# Altium schematic symbol library CRMA1206AF6M00DKEF.SchLib: 1 symbol
Pins are listed as number, name and electrical type; pins without a type are passive.

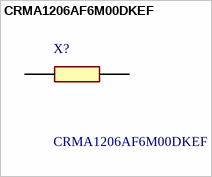
[diagram p0: symbol CRMA1206AF6M00DKEF]

## CRMA1206AF6M00DKEF
designator X?
Thick Film Resistors - SMD 0.30W 6Mohm .5% AEC-Q200; Manufacturer_Name: Vishay; Geometry.Height: 0.74mm; Mouser Part Number: *; Mouser Price/Stock: *; Manufacturer_Part_Number: CRMA1206AF6M00DKEF; Datasheet Link: https://www.vishay.com/doc?68043
footprint RESC3216X74N
pins: 1, 2